# Altium schematic symbol library IC.SchLib: 160 symbols (part 2 of 2)
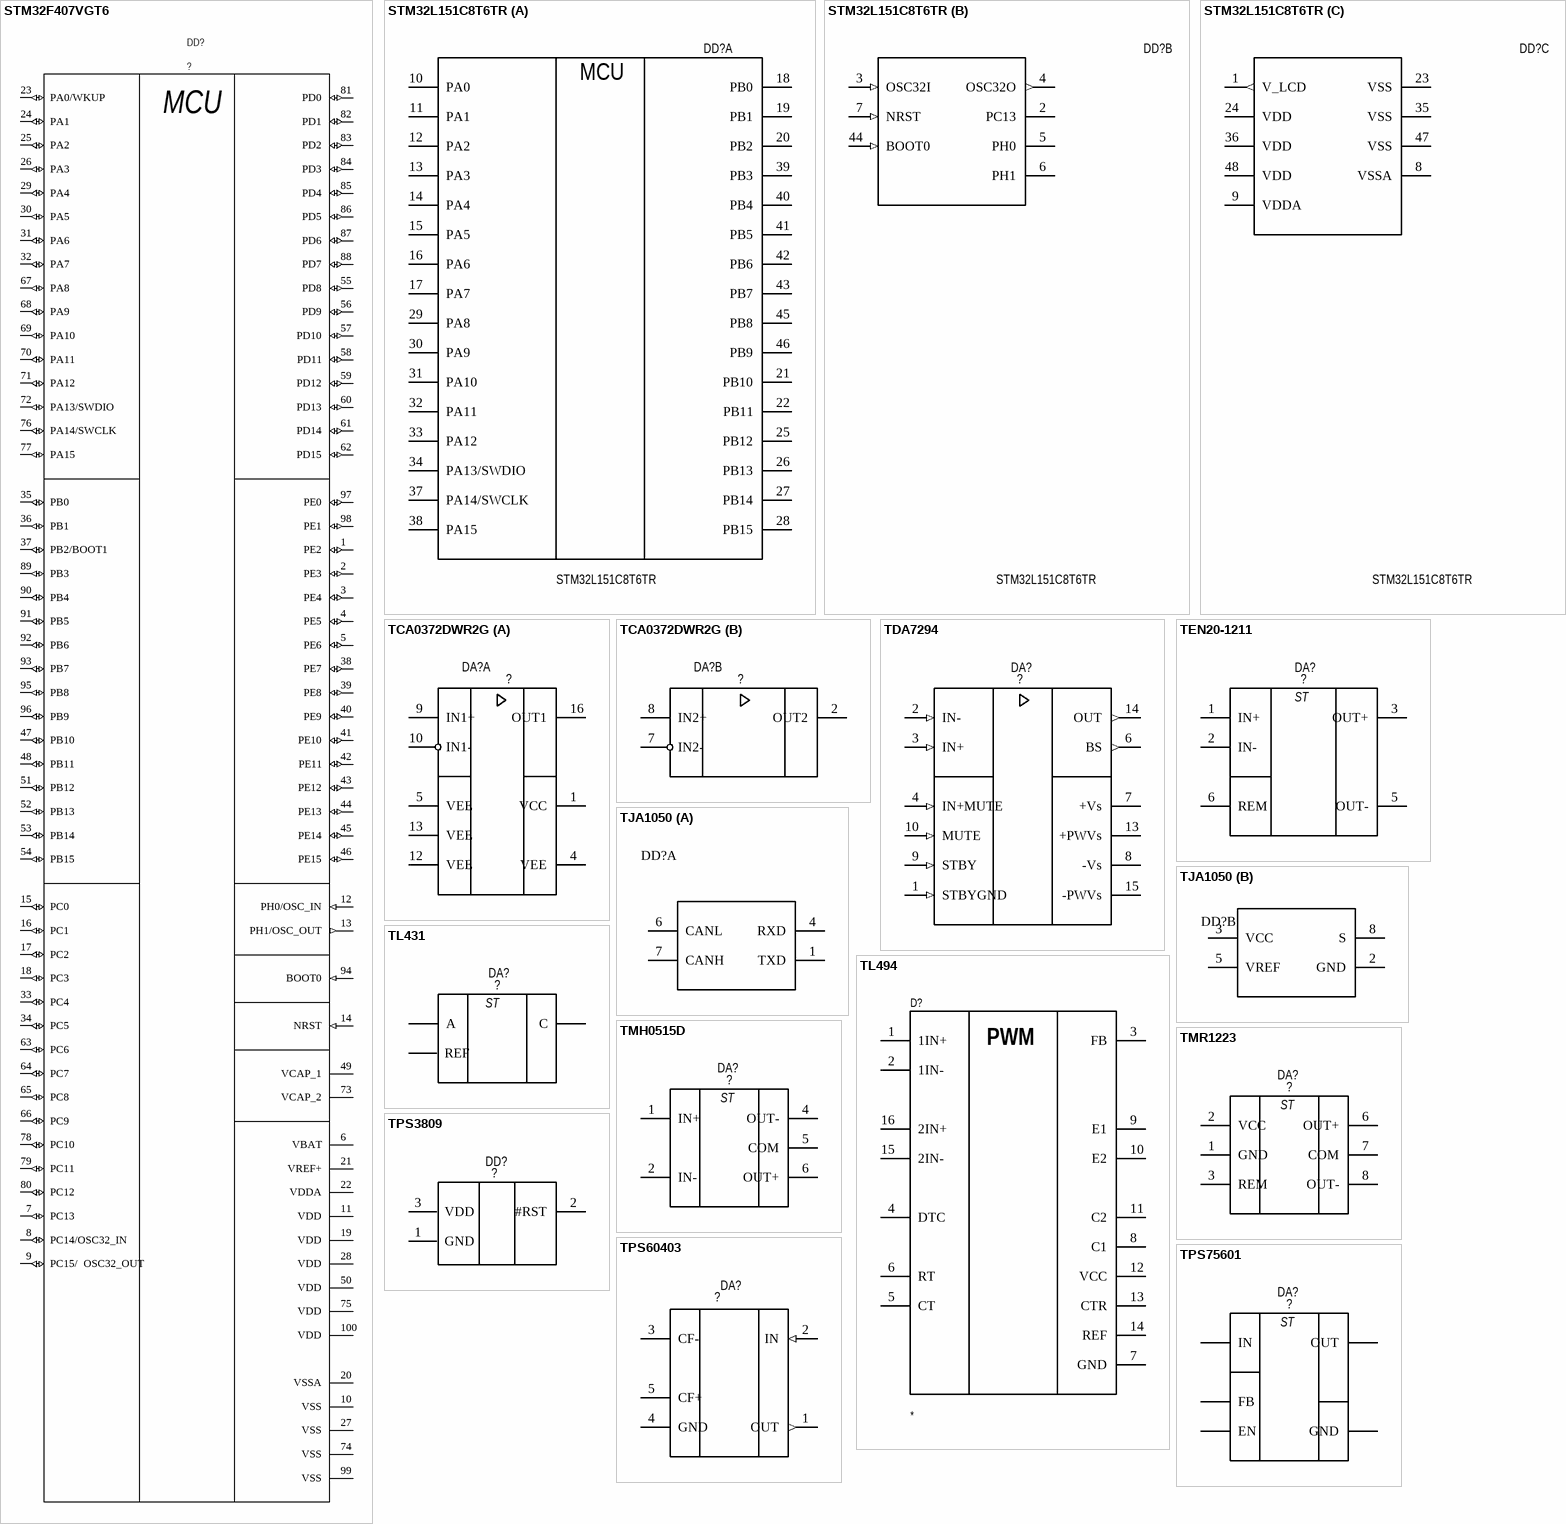
[diagram p20: symbols STM32F407VGT6 to TPS75601]

## STM32F407VGT6
designator DD?, comment ?
ARM Cortex-M4 32b MCU+FPU, 210DMIPS, up to 1MB Flash/192+4KB RAM, USB  OTG HS/FS, Ethernet, 17 TIMs, 3 ADCs, 15 comm. interfaces & camera; type: ?; value: ?
pins: 1 PE2 (io), 2 PE3 (io), 3 PE4 (io), 4 PE5 (io), 5 PE6 (io), 6 VBAT (power), 7 PC13 (io), 8 PC14/OSC32_IN (io), 9 PC15/  OSC32_OUT (io), 10 VSS (power), 11 VDD (power), 12 PH0/OSC_IN (in), 13 PH1/OSC_OUT (out), 14 NRST (in), 15 PC0 (io), 16 PC1 (io), 17 PC2 (io), 18 PC3 (io), 19 VDD (power), 20 VSSA (power), 21 VREF+ (power), 22 VDDA (power), 23 PA0/WKUP (io), 24 PA1 (io), 25 PA2 (io), 26 PA3 (io), 27 VSS (power), 28 VDD (power), 29 PA4 (io), 30 PA5 (io), 31 PA6 (io), 32 PA7 (io), 33 PC4 (io), 34 PC5 (io), 35 PB0 (io), 36 PB1 (io), 37 PB2/BOOT1 (io), 38 PE7 (io), 39 PE8 (io), 40 PE9 (io), 41 PE10 (io), 42 PE11 (io), 43 PE12 (io), 44 PE13 (io), 45 PE14 (io), 46 PE15 (io), 47 PB10 (io), 48 PB11 (io), 49 VCAP_1 (power), 50 VDD (power), 51 PB12 (io), 52 PB13 (io), 53 PB14 (io), 54 PB15 (io), 55 PD8 (io), 56 PD9 (io), 57 PD10 (io), 58 PD11 (io), 59 PD12 (io), 60 PD13 (io), 61 PD14 (io), 62 PD15 (io), 63 PC6 (io), 64 PC7 (io), 65 PC8 (io), 66 PC9 (io), 67 PA8 (io), 68 PA9 (io), 69 PA10 (io), 70 PA11 (io), 71 PA12 (io), 72 PA13/SWDIO (io), 73 VCAP_2 (power), 74 VSS (power), 75 VDD (power), 76 PA14/SWCLK (io), 77 PA15 (io), 78 PC10 (io), 79 PC11 (io), 80 PC12 (io), 81 PD0 (io), 82 PD1 (io), 83 PD2 (io), 84 PD3 (io), 85 PD4 (io), 86 PD5 (io), 87 PD6 (io), 88 PD7 (io), 89 PB3 (io), 90 PB4 (io), 91 PB5 (io), 92 PB6 (io), 93 PB7 (io), 94 BOOT0 (in), 95 PB8 (io), 96 PB9 (io), 97 PE0 (io), 98 PE1 (io), 99 VSS (power), 100 VDD (power)
text: MCU

## STM32L151C8T6TR
designator DD?
Value: *
footprint LQFP-48 (LQFP-48, 48-Leads, Body 7,00x7,00mm, Pitch 0,50mm, IPC Medium Density)
part A pins: 10 PA0, 11 PA1, 12 PA2, 13 PA3, 14 PA4, 15 PA5, 16 PA6, 17 PA7, 18 PB0, 19 PB1, 20 PB2, 21 PB10, 22 PB11, 25 PB12, 26 PB13, 27 PB14, 28 PB15, 29 PA8, 30 PA9, 31 PA10, 32 PA11, 33 PA12, 34 PA13/SWDIO, 37 PA14/SWCLK, 38 PA15, 39 PB3, 40 PB4, 41 PB5, 42 PB6, 43 PB7, 45 PB8, 46 PB9
part B pins: 2 PC13, 3 OSC32I (in), 4 OSC32O (out), 5 PH0, 6 PH1, 7 NRST (in), 44 BOOT0 (in)
part C pins: 1 V_LCD (out), 8 VSSA (power), 9 VDDA (power), 23 VSS (power), 24 VDD (power), 35 VSS (power), 36 VDD (power), 47 VSS (power), 48 VDD (power)
part A text: MCU

## TCA0372DWR2G
designator DA?, comment ?
1.0 A Output Current,  Dual Power Operational  Amplifiers; Type: ?; Value: ?
part A pins: 1 VCC (power), 4 VEE (power), 5 VEE (power), 9 IN1+, 10 IN1-, 12 VEE (power), 13 VEE (power), 16 OUT1
part B pins: 2 OUT2, 7 IN2-, 8 IN2+

## TDA7294
designator DA?, comment ?
100V - 100W DMOS AUDIO AMPLIFIER WITH MUTE/ST-BY; Type: ?; Value: ?
pins: 1 STBYGND (in), 2 IN- (in), 3 IN+ (in), 4 IN+MUTE (in), 6 BS (out), 7 +Vs (power), 8 -Vs (power), 9 STBY (in), 10 MUTE (in), 13 +PWVs (power), 14 OUT (out), 15 -PWVs (power)

## TEN20-1211
designator DA?, comment ?
DC/DC Converter; Type: ?; Value: ?
pins: 1 IN+, 2 IN-, 3 OUT+, 5 OUT-, 6 REM
text: ST

## TJA1050
designator DD?  (value not drawn)
part A pins: 1 TXD, 4 RXD, 6 CANL, 7 CANH
part B pins: 2 GND, 3 VCC, 5 VREF, 8 S

## TL431
designator DA?, comment ?
Adjustible Precision Shunt Regulators; Type: ?; Value: ?
pins: A "Anode", C "Cathode", R REF "Reference"
text: ST

## TL494
designator D?
pins: 1 1IN+, 2 1IN-, 3 FB, 4 DTC, 5 CT, 6 RT, 7 GND, 8 C1, 9 E1, 10 E2, 11 C2, 12 VCC, 13 CTR, 14 REF, 15 2IN-, 16 2IN+
text: PWM

## TMH0515D
designator DA?, comment ?
DC-DC  2W; Type: ?; Value: ?
pins: 1 IN+, 2 IN-, 4 OUT-, 5 COM, 6 OUT+
text: ST

## TMR1223
designator DA?, comment ?
DC-DC  2W; Type: ?; Value: ?
pins: 1 GND, 2 VCC, 3 REM, 6 OUT+, 7 COM, 8 OUT-
text: ST

## TPS3809
designator DD?, comment ?
UPPLY VOLTAGE SUPERVISOR; Type: ?; Value: ?
pins: 1 GND, 2 #RST, 3 VDD

## TPS60403
designator DA?, comment ?
Unregulated 60-mA Charge Pump Voltage Inverte; Type: ?; value: ?
pins: 1 OUT (out), 2 IN (in), 3 CF-, 4 GND (power), 5 CF+

## TPS75601
designator DA?, comment ?
FAST-TRANSIENT RESPONSE 5-A LOW-DROPOUT VOLTAGE REGULATORS; Type: ?; Value: ?
pins: EN, FB, GND, IN, OUT
text: ST

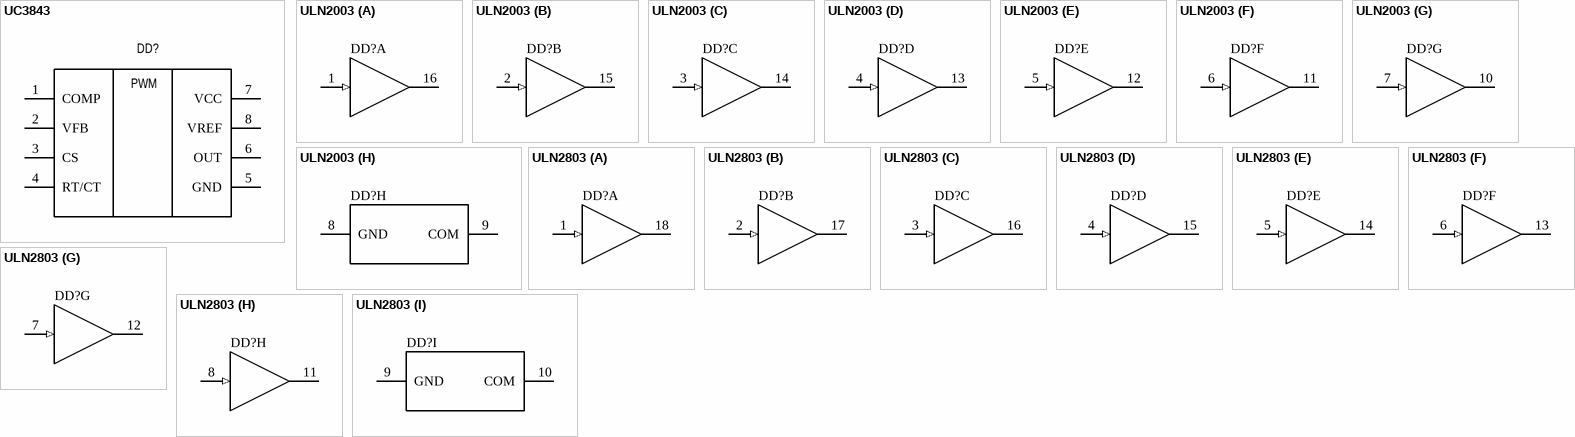
[diagram p15: symbols UC3843 to ULN2803]

## UC3843
designator DD?
HIGH PERFORMANCE CURRENT MODE PWM CONTROLLER; type: ?
pins: 1 COMP, 2 VFB, 3 CS, 4 RT/CT, 5 GND, 6 OUT, 7 VCC, 8 VREF
text: PWM

## ULN2003
designator DD?  (value not drawn)
value: *; Type: *
part A pins: 1 IN1 (in), 16 OUT1 (oc)
part B pins: 2 IN2 (in), 15 OUT2 (oc)
part C pins: 3 IN3 (in), 14 OUT3 (oc)
part D pins: 4 IN4 (in), 13 OUT4 (oc)
part E pins: 5 IN5 (in), 12 OUT5 (oc)
part F pins: 6 IN6 (in), 11 OUT6 (oc)
part G pins: 7 IN7 (in), 10 OUT7 (oc)
part H pins: 8 GND, 9 COM

## ULN2803
designator DD?, comment ULN2003  (value not drawn)
value: *; Type: *
part A pins: 1 IN1 (in), 18 OUT1 (oc)
part B pins: 2 IN2 (in), 17 OUT2 (oc)
part C pins: 3 IN3 (in), 16 OUT3 (oc)
part D pins: 4 IN4 (in), 15 OUT4 (oc)
part E pins: 5 IN5 (in), 14 OUT5 (oc)
part F pins: 6 IN6 (in), 13 OUT6 (oc)
part G pins: 7 IN7 (in), 12 OUT7 (oc)
part H pins: 8 IN8 (in), 11 OUT8 (oc)
part I pins: 9 GND, 10 COM

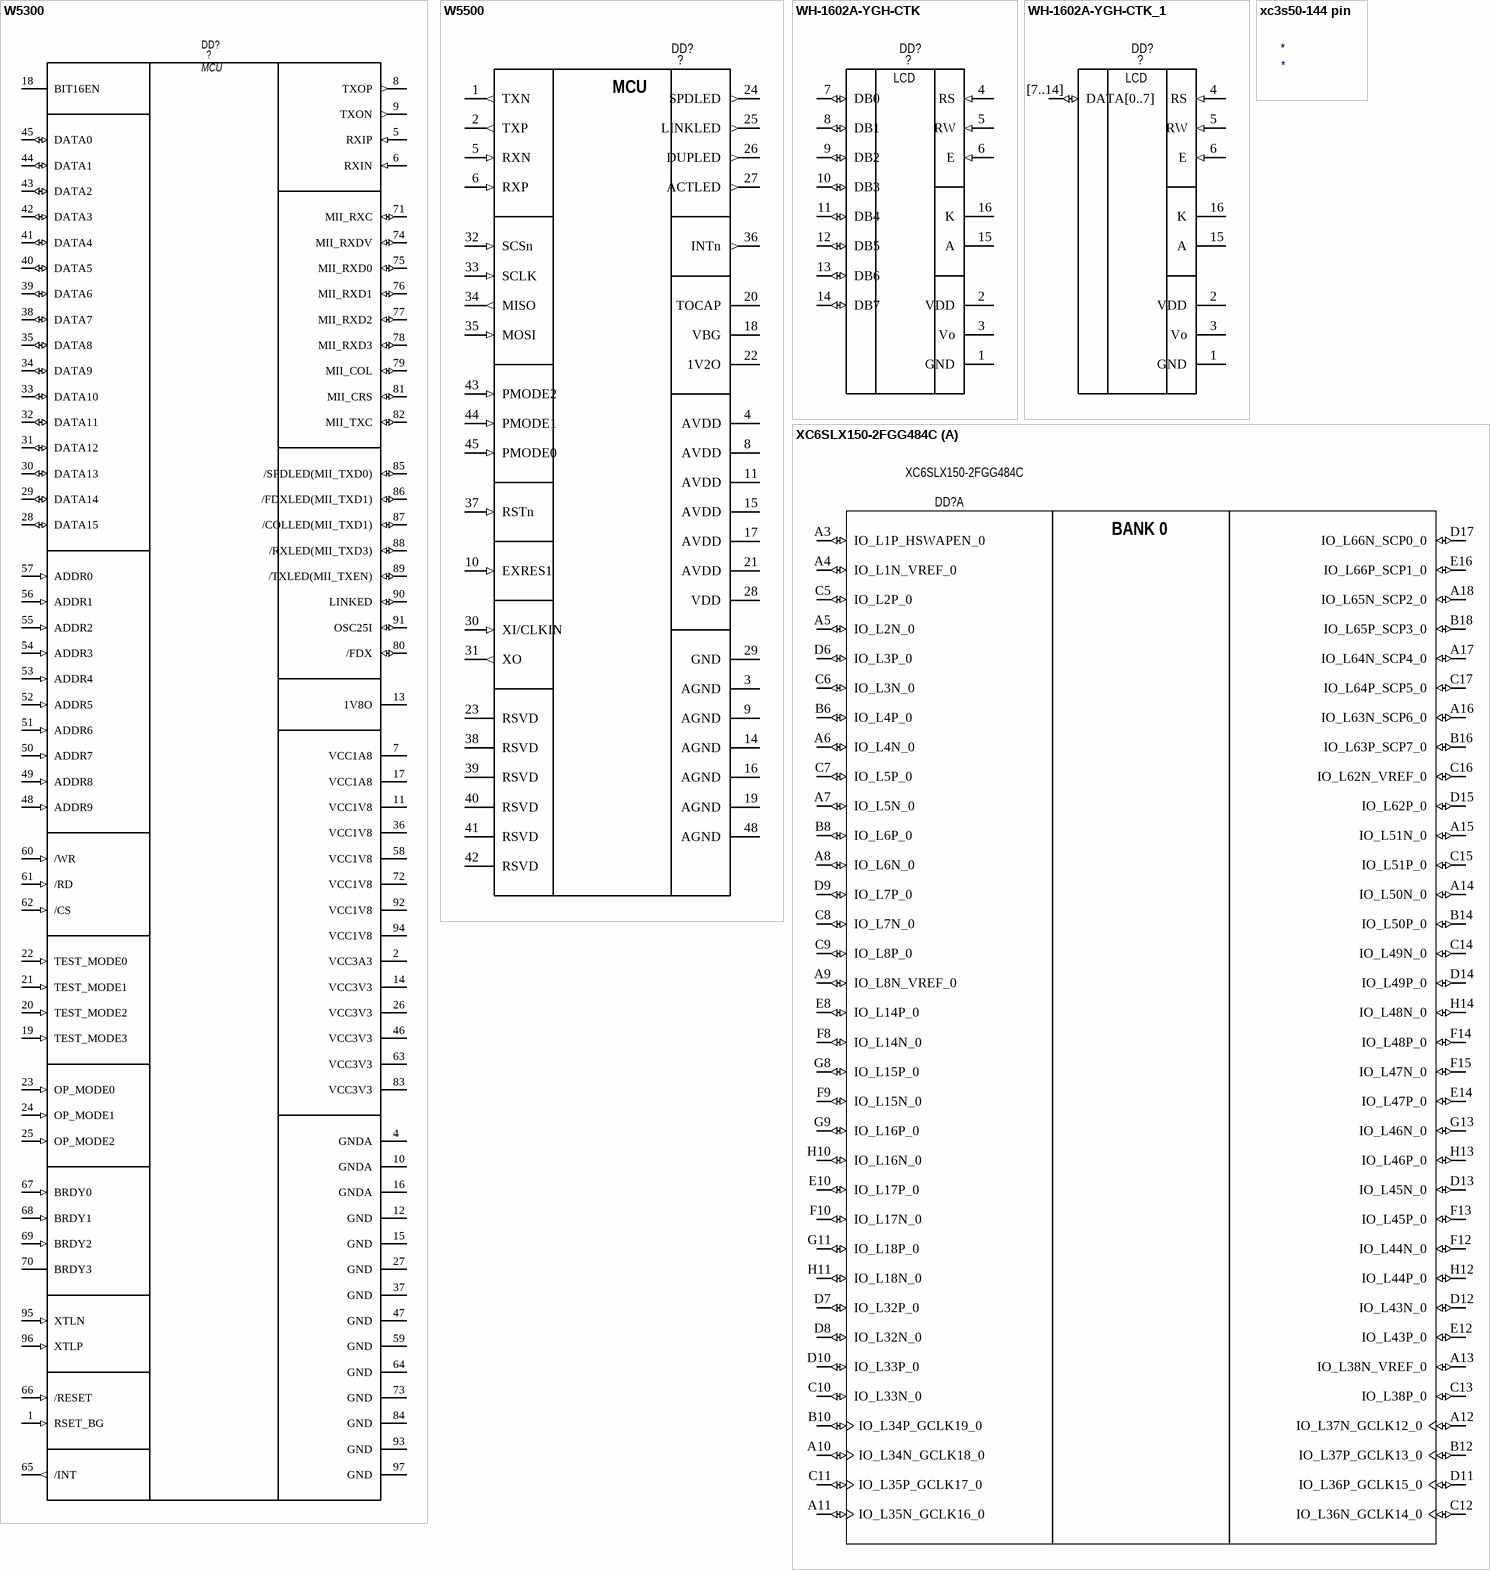
[diagram p16: symbols W5300 to XC6SLX150-2FGG484C]

## W5300
designator DD?, comment ?
High-Performance Internet Connectivity Solution; type: ?; value: ?
pins: 1 RSET_BG (in), 2 VCC3A3 (power), 4 NC hidden, 4 GNDA (power), 5 RXIP (in), 6 RXIN (in), 7 VCC1A8 (power), 8 TXOP (out), 9 TXON (out), 10 GNDA (power), 11 VCC1V8 (power), 12 GND (power), 13 1V8O (power), 14 VCC3V3 (power), 15 GND (power), 16 GNDA (power), 17 VCC1A8 (power), 18 BIT16EN, 19 TEST_MODE3 (in), 20 TEST_MODE2 (in), 21 TEST_MODE1 (in), 22 TEST_MODE0 (in), 23 OP_MODE0 (in), 24 OP_MODE1 (in), 25 OP_MODE2 (in), 26 VCC3V3 (power), 27 GND (power), 28 DATA15 (io), 29 DATA14 (io), 30 DATA13 (io), 31 DATA12 (io), 32 DATA11 (io), 33 DATA10 (io), 34 DATA9 (io), 35 DATA8 (io), 36 VCC1V8 (power), 37 GND (power), 38 DATA7 (io), 39 DATA6 (io), 40 DATA5 (io), 41 DATA4 (io), 42 DATA3 (io), 43 DATA2 (io), 44 DATA1 (io), 45 DATA0 (io), 46 VCC3V3 (power), 47 GND (power), 48 ADDR9 (in), 49 ADDR8 (in), 50 ADDR7 (in), 51 ADDR6 (in), 52 ADDR5 (in), 53 ADDR4 (in), 54 ADDR3 (in), 55 ADDR2 (in), 56 ADDR1 (in), 57 ADDR0 (in), 58 VCC1V8 (power), 59 GND (power), 60 /WR (in), 61 /RD (in), 62 /CS (in), 63 VCC3V3 (power), 64 GND (power), 65 /INT (out), 66 /RESET (in), 67 BRDY0 (in), 68 BRDY1 (in), 69 BRDY2 (in), 70 BRDY3, 71 MII_RXC (io), 72 VCC1V8 (power), 73 GND (power), 74 MII_RXDV (io), 75 MII_RXD0 (io), 76 MII_RXD1 (io), 77 MII_RXD2 (io), 78 MII_RXD3 (io), 79 MII_COL (io), 80 /FDX (io), 81 MII_CRS (io), 82 MII_TXC (io), 83 VCC3V3 (power), 84 GND (power), 85 /SPDLED(MII_TXD0) (io), 86 /FDXLED(MII_TXD1) (io), 87 /COLLED(MII_TXD1) (io), 88 /RXLED(MII_TXD3) (io), 89 /TXLED(MII_TXEN) (io), 90 LINKED (io), 91 OSC25I (io), 92 VCC1V8 (power), 93 GND (power), 94 VCC1V8 (power), 95 XTLN (in), 96 XTLP (in), 97 GND (power), 99 NC hidden, 100 NC hidden
text: MCU

## W5500
designator DD?, comment ?
Hardwired TCP/IP embedded Ethernet controller; type: ?; value: ?
pins: 1 TXN (out), 2 TXP (out), 3 AGND (power), 4 AVDD (power), 5 RXN (in), 6 RXP (in), 7 DNC hidden, 8 AVDD (power), 9 AGND (power), 10 EXRES1 (in), 11 AVDD (power), 12 NC hidden, 13 NC hidden, 14 AGND (power), 15 AVDD (power), 16 AGND (power), 17 AVDD (power), 18 VBG (power), 19 AGND (power), 20 TOCAP (power), 21 AVDD (power), 22 1V2O (power), 23 RSVD, 24 SPDLED (out), 25 LINKLED (out), 26 DUPLED (out), 27 ACTLED (out), 28 VDD (power), 29 GND (power), 30 XI/CLKIN (in), 31 XO (out), 32 SCSn (in), 33 SCLK (in), 34 MISO (out), 35 MOSI (in), 36 INTn (out), 37 RSTn (in), 38 RSVD, 39 RSVD, 40 RSVD, 41 RSVD, 42 RSVD, 43 PMODE2 (in), 44 PMODE1 (in), 45 PMODE0 (in), 46 NC hidden, 47 NC hidden, 48 AGND (power)
text: MCU

## WH-1602A-YGH-CTK
designator DD?, comment ?
LCD display Module; type: *; value: ?
pins: 1 GND (power), 2 VDD (power), 3 Vo (power), 4 RS (in), 5 RW (in), 6 E (in), 7 DB0 (io), 8 DB1 (io), 9 DB2 (io), 10 DB3 (io), 11 DB4 (io), 12 DB5 (io), 13 DB6 (io), 14 DB7 (io), 15 A (power), 16 K (power) "cathode"
text: LCD

## WH-1602A-YGH-CTK_1
designator DD?, comment ?
LCD display Module; type: *; value: ?
pins: 1 GND (power), 2 VDD (power), 3 Vo (power), 4 RS (in), 5 RW (in), 6 E (in), 15 A (power), 16 K (power) "cathode", [7..14] DATA[0..7] (io)
text: LCD

## xc3s50-144 pin
designator *

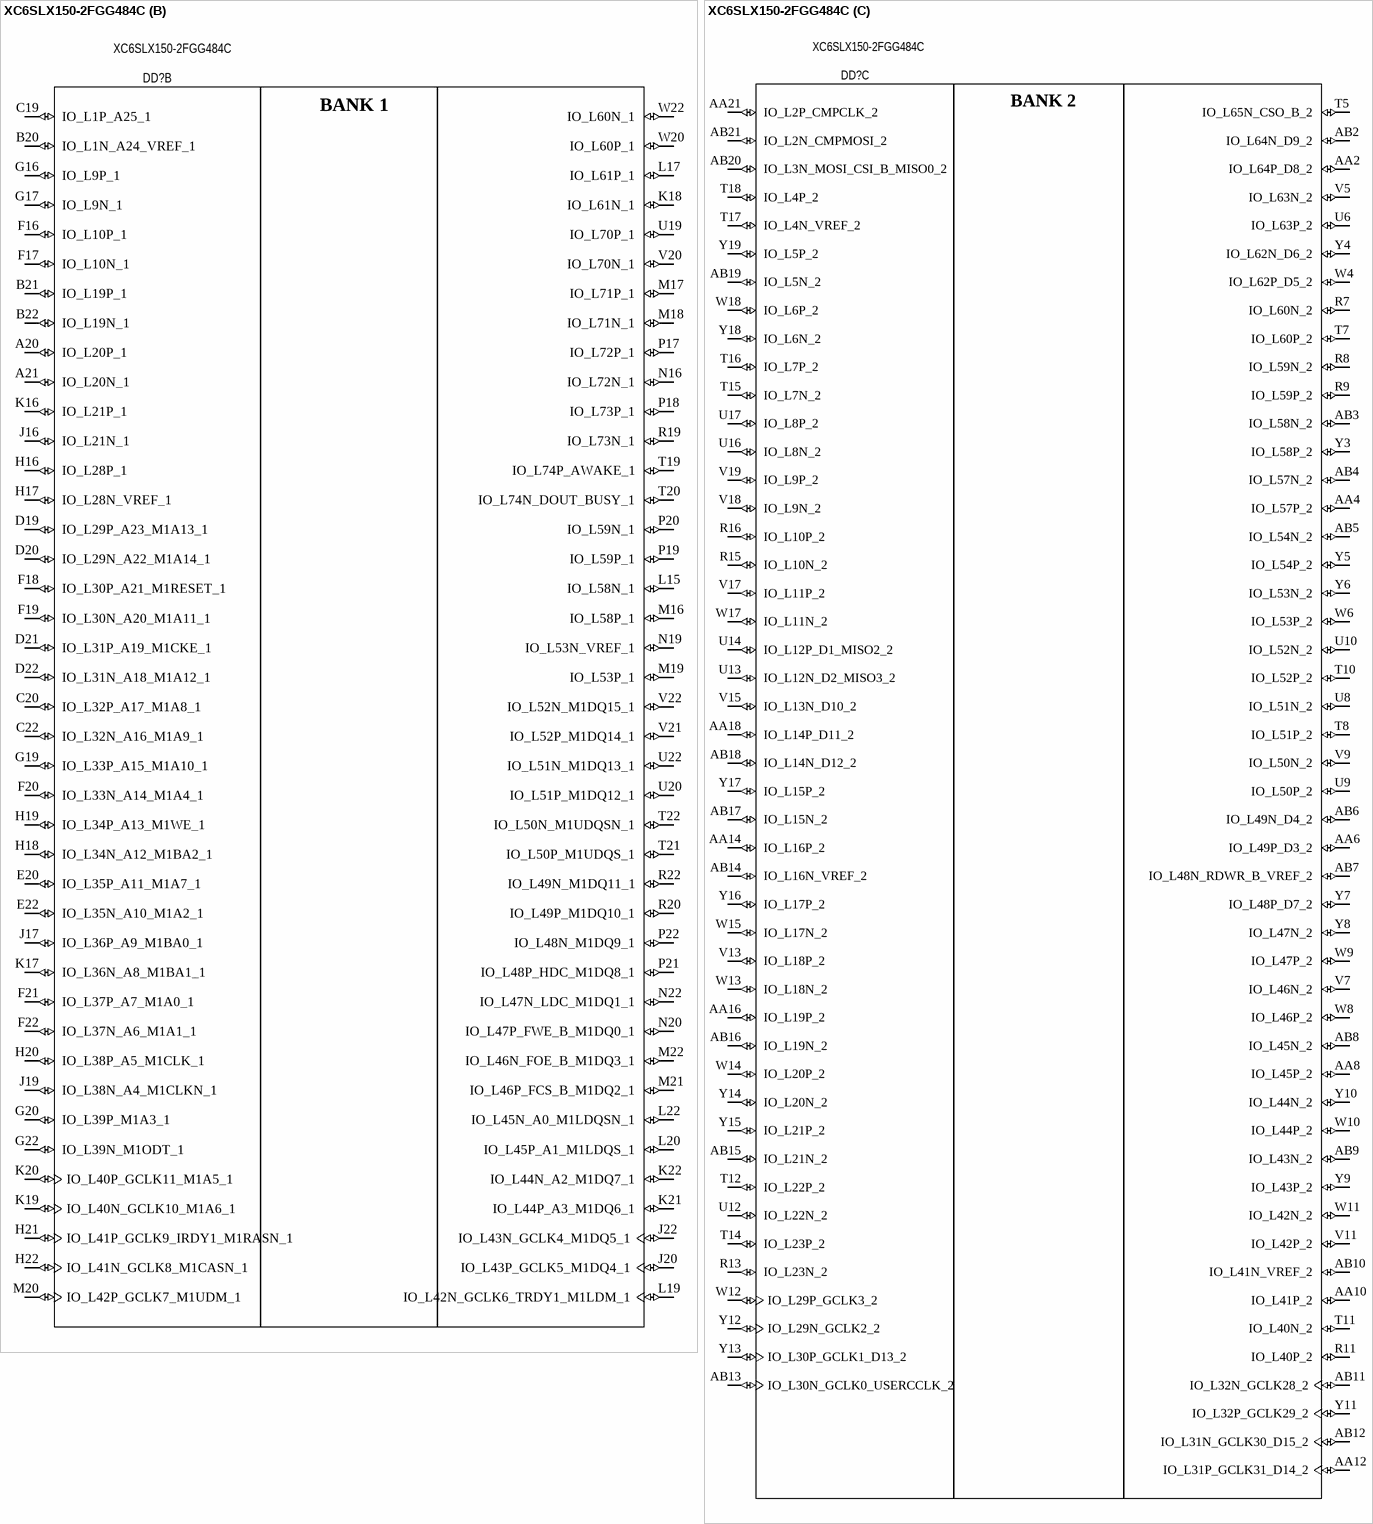
[diagram p17: symbol XC6SLX150-2FGG484C]

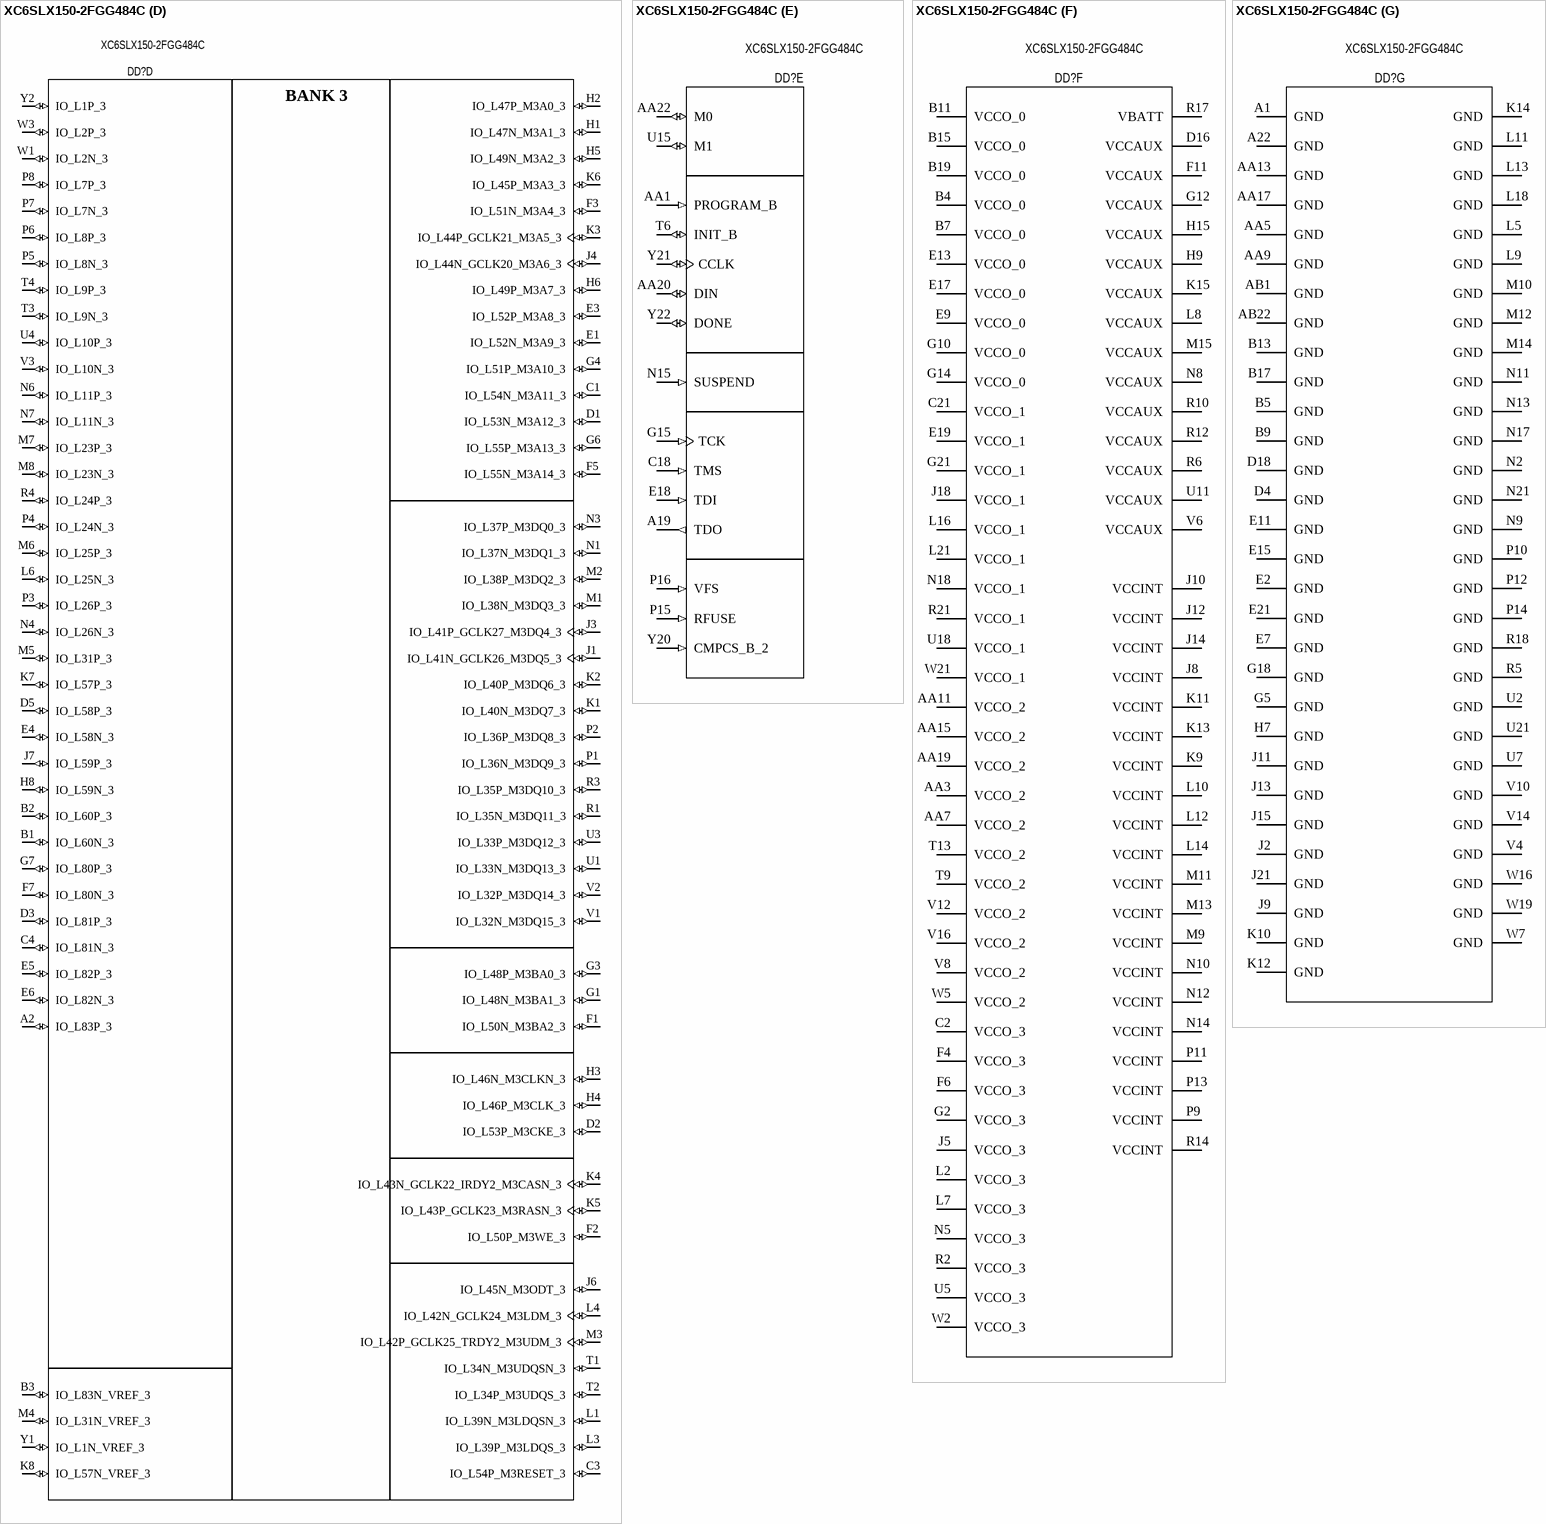
[diagram p18: symbol XC6SLX150-2FGG484C]

## XC6SLX150-2FGG484C
designator DD?
Spartan-6 LX 1.2V FPGA, 338 User I/Os, 484-Ball Fine-Pitch BGA (1.0mm Pitch), Speed Grade 2, Commercial Grade, Pb-Free; Published: 17-Nov-2009; DatasheetVersion: ver1.6, Nov-2010; PackageVersion: ver1.1, Dec-2008; PackageReference: FGG484; Publisher: Altium Limited; PackageDescription: 484-Ball Fine Pitch Ball Grid Array 1.00 mm Pitch (FGG484) - Pb-Free; Supplier 1: Digi-Key; Supplier Part Number 1: XC6SLX150-2FGG484C-ND; Code_JEDEC: MS-034-AAJ-1; Code_IPC: BGA100P22X22-484; ComponentLink1Description: Manufacturer Link; ComponentLink1URL: http://www.xilinx.com; ComponentLink2Description: Spartan-6 Datasheet; ComponentLink2URL: http://www.xilinx.com/support/documentation/data_sheets/ds160.pdf; ComponentLink3Description: Spartan-6 Documents; ComponentLink3URL: http://www.xilinx.com/support/documentation/spartan-6.htm; ComponentLink4Description: Xilinx.com Home; ComponentLink4URL: http://www.xilinx.com
footprint FGG484 (BGA, 484-Leads, Body 23x23mm, Pitch 1mm)
signal-integrity model XC6SLX150_FGG484 (Spartan-6)
part A pins: A3 IO_L1P_HSWAPEN_0 (io), A4 IO_L1N_VREF_0 (io), A5 IO_L2N_0 (io), A6 IO_L4N_0 (io), A7 IO_L5N_0 (io), A8 IO_L6N_0 (io), A9 IO_L8N_VREF_0 (io), A10 IO_L34N_GCLK18_0 (io), A11 IO_L35N_GCLK16_0 (io), A12 IO_L37N_GCLK12_0 (io), A13 IO_L38N_VREF_0 (io), A14 IO_L50N_0 (io), A15 IO_L51N_0 (io), A16 IO_L63N_SCP6_0 (io), A17 IO_L64N_SCP4_0 (io), A18 IO_L65N_SCP2_0 (io), B6 IO_L4P_0 (io), B8 IO_L6P_0 (io), B10 IO_L34P_GCLK19_0 (io), B12 IO_L37P_GCLK13_0 (io), B14 IO_L50P_0 (io), B16 IO_L63P_SCP7_0 (io), B18 IO_L65P_SCP3_0 (io), C5 IO_L2P_0 (io), C6 IO_L3N_0 (io), C7 IO_L5P_0 (io), C8 IO_L7N_0 (io), C9 IO_L8P_0 (io), C10 IO_L33N_0 (io), C11 IO_L35P_GCLK17_0 (io), C12 IO_L36N_GCLK14_0 (io), C13 IO_L38P_0 (io), C14 IO_L49N_0 (io), C15 IO_L51P_0 (io), C16 IO_L62N_VREF_0 (io), C17 IO_L64P_SCP5_0 (io), D6 IO_L3P_0 (io), D7 IO_L32P_0 (io), D8 IO_L32N_0 (io), D9 IO_L7P_0 (io), D10 IO_L33P_0 (io), D11 IO_L36P_GCLK15_0 (io), D12 IO_L43N_0 (io), D13 IO_L45N_0 (io), D14 IO_L49P_0 (io), D15 IO_L62P_0 (io), D17 IO_L66N_SCP0_0 (io), E8 IO_L14P_0 (io), E10 IO_L17P_0 (io), E12 IO_L43P_0 (io), E14 IO_L47P_0 (io), E16 IO_L66P_SCP1_0 (io), F8 IO_L14N_0 (io), F9 IO_L15N_0 (io), F10 IO_L17N_0 (io), F12 IO_L44N_0 (io), F13 IO_L45P_0 (io), F14 IO_L48P_0 (io), F15 IO_L47N_0 (io), G8 IO_L15P_0 (io), G9 IO_L16P_0 (io), G11 IO_L18P_0 (io), G13 IO_L46N_0 (io), H10 IO_L16N_0 (io), H11 IO_L18N_0 (io), H12 IO_L44P_0 (io), H13 IO_L46P_0 (io), H14 IO_L48N_0 (io)
part B pins: A20 IO_L20P_1 (io), A21 IO_L20N_1 (io), B20 IO_L1N_A24_VREF_1 (io), B21 IO_L19P_1 (io), B22 IO_L19N_1 (io), C19 IO_L1P_A25_1 (io), C20 IO_L32P_A17_M1A8_1 (io), C22 IO_L32N_A16_M1A9_1 (io), D19 IO_L29P_A23_M1A13_1 (io), D20 IO_L29N_A22_M1A14_1 (io), D21 IO_L31P_A19_M1CKE_1 (io), D22 IO_L31N_A18_M1A12_1 (io), E20 IO_L35P_A11_M1A7_1 (io), E22 IO_L35N_A10_M1A2_1 (io), F16 IO_L10P_1 (io), F17 IO_L10N_1 (io), F18 IO_L30P_A21_M1RESET_1 (io), F19 IO_L30N_A20_M1A11_1 (io), F20 IO_L33N_A14_M1A4_1 (io), F21 IO_L37P_A7_M1A0_1 (io), F22 IO_L37N_A6_M1A1_1 (io), G16 IO_L9P_1 (io), G17 IO_L9N_1 (io), G19 IO_L33P_A15_M1A10_1 (io), G20 IO_L39P_M1A3_1 (io), G22 IO_L39N_M1ODT_1 (io), H16 IO_L28P_1 (io), H17 IO_L28N_VREF_1 (io), H18 IO_L34N_A12_M1BA2_1 (io), H19 IO_L34P_A13_M1WE_1 (io), H20 IO_L38P_A5_M1CLK_1 (io), H21 IO_L41P_GCLK9_IRDY1_M1RASN_1 (io), H22 IO_L41N_GCLK8_M1CASN_1 (io), J16 IO_L21N_1 (io), J17 IO_L36P_A9_M1BA0_1 (io), J19 IO_L38N_A4_M1CLKN_1 (io), J20 IO_L43P_GCLK5_M1DQ4_1 (io), J22 IO_L43N_GCLK4_M1DQ5_1 (io), K16 IO_L21P_1 (io), K17 IO_L36N_A8_M1BA1_1 (io), K18 IO_L61N_1 (io), K19 IO_L40N_GCLK10_M1A6_1 (io), K20 IO_L40P_GCLK11_M1A5_1 (io), K21 IO_L44P_A3_M1DQ6_1 (io), K22 IO_L44N_A2_M1DQ7_1 (io), L15 IO_L58N_1 (io), L17 IO_L61P_1 (io), L19 IO_L42N_GCLK6_TRDY1_M1LDM_1 (io), L20 IO_L45P_A1_M1LDQS_1 (io), L22 IO_L45N_A0_M1LDQSN_1 (io), M16 IO_L58P_1 (io), M17 IO_L71P_1 (io), M18 IO_L71N_1 (io), M19 IO_L53P_1 (io), M20 IO_L42P_GCLK7_M1UDM_1 (io), M21 IO_L46P_FCS_B_M1DQ2_1 (io), M22 IO_L46N_FOE_B_M1DQ3_1 (io), N16 IO_L72N_1 (io), N19 IO_L53N_VREF_1 (io), N20 IO_L47P_FWE_B_M1DQ0_1 (io), N22 IO_L47N_LDC_M1DQ1_1 (io), P17 IO_L72P_1 (io), P18 IO_L73P_1 (io), P19 IO_L59P_1 (io), P20 IO_L59N_1 (io), P21 IO_L48P_HDC_M1DQ8_1 (io), P22 IO_L48N_M1DQ9_1 (io), R19 IO_L73N_1 (io), R20 IO_L49P_M1DQ10_1 (io), R22 IO_L49N_M1DQ11_1 (io), T19 IO_L74P_AWAKE_1 (io), T20 IO_L74N_DOUT_BUSY_1 (io), T21 IO_L50P_M1UDQS_1 (io), T22 IO_L50N_M1UDQSN_1 (io), U19 IO_L70P_1 (io), U20 IO_L51P_M1DQ12_1 (io), U22 IO_L51N_M1DQ13_1 (io), V20 IO_L70N_1 (io), V21 IO_L52P_M1DQ14_1 (io), V22 IO_L52N_M1DQ15_1 (io), W20 IO_L60P_1 (io), W22 IO_L60N_1 (io)
part C pins: AA2 IO_L64P_D8_2 (io), AA4 IO_L57P_2 (io), AA6 IO_L49P_D3_2 (io), AA8 IO_L45P_2 (io), AA10 IO_L41P_2 (io), AA12 IO_L31P_GCLK31_D14_2 (io), AA14 IO_L16P_2 (io), AA16 IO_L19P_2 (io), AA18 IO_L14P_D11_2 (io), AA21 IO_L2P_CMPCLK_2 (io), AB2 IO_L64N_D9_2 (io), AB3 IO_L58N_2 (io), AB4 IO_L57N_2 (io), AB5 IO_L54N_2 (io), AB6 IO_L49N_D4_2 (io), AB7 IO_L48N_RDWR_B_VREF_2 (io), AB8 IO_L45N_2 (io), AB9 IO_L43N_2 (io), AB10 IO_L41N_VREF_2 (io), AB11 IO_L32N_GCLK28_2 (io), AB12 IO_L31N_GCLK30_D15_2 (io), AB13 IO_L30N_GCLK0_USERCCLK_2 (io), AB14 IO_L16N_VREF_2 (io), AB15 IO_L21N_2 (io), AB16 IO_L19N_2 (io), AB17 IO_L15N_2 (io), AB18 IO_L14N_D12_2 (io), AB19 IO_L5N_2 (io), AB20 IO_L3N_MOSI_CSI_B_MISO0_2 (io), AB21 IO_L2N_CMPMOSI_2 (io), R7 IO_L60N_2 (io), R8 IO_L59N_2 (io), R9 IO_L59P_2 (io), R11 IO_L40P_2 (io), R13 IO_L23N_2 (io), R15 IO_L10N_2 (io), R16 IO_L10P_2 (io), T5 IO_L65N_CSO_B_2 (io), T7 IO_L60P_2 (io), T8 IO_L51P_2 (io), T10 IO_L52P_2 (io), T11 IO_L40N_2 (io), T12 IO_L22P_2 (io), T14 IO_L23P_2 (io), T15 IO_L7N_2 (io), T16 IO_L7P_2 (io), T17 IO_L4N_VREF_2 (io), T18 IO_L4P_2 (io), U6 IO_L63P_2 (io), U8 IO_L51N_2 (io), U9 IO_L50P_2 (io), U10 IO_L52N_2 (io), U12 IO_L22N_2 (io), U13 IO_L12N_D2_MISO3_2 (io), U14 IO_L12P_D1_MISO2_2 (io), U16 IO_L8N_2 (io), U17 IO_L8P_2 (io), V5 IO_L63N_2 (io), V7 IO_L46N_2 (io), V9 IO_L50N_2 (io), V11 IO_L42P_2 (io), V13 IO_L18P_2 (io), V15 IO_L13N_D10_2 (io), V17 IO_L11P_2 (io), V18 IO_L9N_2 (io), V19 IO_L9P_2 (io), W4 IO_L62P_D5_2 (io), W6 IO_L53P_2 (io), W8 IO_L46P_2 (io), W9 IO_L47P_2 (io), W10 IO_L44P_2 (io), W11 IO_L42N_2 (io), W12 IO_L29P_GCLK3_2 (io), W13 IO_L18N_2 (io), W14 IO_L20P_2 (io), W15 IO_L17N_2 (io), W17 IO_L11N_2 (io), W18 IO_L6P_2 (io), Y3 IO_L58P_2 (io), Y4 IO_L62N_D6_2 (io), Y5 IO_L54P_2 (io), Y6 IO_L53N_2 (io), Y7 IO_L48P_D7_2 (io), Y8 IO_L47N_2 (io), Y9 IO_L43P_2 (io), Y10 IO_L44N_2 (io), Y11 IO_L32P_GCLK29_2 (io), Y12 IO_L29N_GCLK2_2 (io), Y13 IO_L30P_GCLK1_D13_2 (io), Y14 IO_L20N_2 (io), Y15 IO_L21P_2 (io), Y16 IO_L17P_2 (io), Y17 IO_L15P_2 (io), Y18 IO_L6N_2 (io), Y19 IO_L5P_2 (io)
part D pins: A2 IO_L83P_3 (io), B1 IO_L60N_3 (io), B2 IO_L60P_3 (io), B3 IO_L83N_VREF_3 (io), C1 IO_L54N_M3A11_3 (io), C3 IO_L54P_M3RESET_3 (io), C4 IO_L81N_3 (io), D1 IO_L53N_M3A12_3 (io), D2 IO_L53P_M3CKE_3 (io), D3 IO_L81P_3 (io), D5 IO_L58P_3 (io), E1 IO_L52N_M3A9_3 (io), E3 IO_L52P_M3A8_3 (io), E4 IO_L58N_3 (io), E5 IO_L82P_3 (io), E6 IO_L82N_3 (io), F1 IO_L50N_M3BA2_3 (io), F2 IO_L50P_M3WE_3 (io), F3 IO_L51N_M3A4_3 (io), F5 IO_L55N_M3A14_3 (io), F7 IO_L80N_3 (io), G1 IO_L48N_M3BA1_3 (io), G3 IO_L48P_M3BA0_3 (io), G4 IO_L51P_M3A10_3 (io), G6 IO_L55P_M3A13_3 (io), G7 IO_L80P_3 (io), H1 IO_L47N_M3A1_3 (io), H2 IO_L47P_M3A0_3 (io), H3 IO_L46N_M3CLKN_3 (io), H4 IO_L46P_M3CLK_3 (io), H5 IO_L49N_M3A2_3 (io), H6 IO_L49P_M3A7_3 (io), H8 IO_L59N_3 (io), J1 IO_L41N_GCLK26_M3DQ5_3 (io), J3 IO_L41P_GCLK27_M3DQ4_3 (io), J4 IO_L44N_GCLK20_M3A6_3 (io), J6 IO_L45N_M3ODT_3 (io), J7 IO_L59P_3 (io), K1 IO_L40N_M3DQ7_3 (io), K2 IO_L40P_M3DQ6_3 (io), K3 IO_L44P_GCLK21_M3A5_3 (io), K4 IO_L43N_GCLK22_IRDY2_M3CASN_3 (io), K5 IO_L43P_GCLK23_M3RASN_3 (io), K6 IO_L45P_M3A3_3 (io), K7 IO_L57P_3 (io), K8 IO_L57N_VREF_3 (io), L1 IO_L39N_M3LDQSN_3 (io), L3 IO_L39P_M3LDQS_3 (io), L4 IO_L42N_GCLK24_M3LDM_3 (io), L6 IO_L25N_3 (io), M1 IO_L38N_M3DQ3_3 (io), M2 IO_L38P_M3DQ2_3 (io), M3 IO_L42P_GCLK25_TRDY2_M3UDM_3 (io), M4 IO_L31N_VREF_3 (io), M5 IO_L31P_3 (io), M6 IO_L25P_3 (io), M7 IO_L23P_3 (io), M8 IO_L23N_3 (io), N1 IO_L37N_M3DQ1_3 (io), N3 IO_L37P_M3DQ0_3 (io), N4 IO_L26N_3 (io), N6 IO_L11P_3 (io), N7 IO_L11N_3 (io), P1 IO_L36N_M3DQ9_3 (io), P2 IO_L36P_M3DQ8_3 (io), P3 IO_L26P_3 (io), P4 IO_L24N_3 (io), P5 IO_L8N_3 (io), P6 IO_L8P_3 (io), P7 IO_L7N_3 (io), P8 IO_L7P_3 (io), R1 IO_L35N_M3DQ11_3 (io), R3 IO_L35P_M3DQ10_3 (io), R4 IO_L24P_3 (io), T1 IO_L34N_M3UDQSN_3 (io), T2 IO_L34P_M3UDQS_3 (io), T3 IO_L9N_3 (io), T4 IO_L9P_3 (io), U1 IO_L33N_M3DQ13_3 (io), U3 IO_L33P_M3DQ12_3 (io), U4 IO_L10P_3 (io), V1 IO_L32N_M3DQ15_3 (io), V2 IO_L32P_M3DQ14_3 (io), V3 IO_L10N_3 (io), W1 IO_L2N_3 (io), W3 IO_L2P_3 (io), Y1 IO_L1N_VREF_3 (io), Y2 IO_L1P_3 (io)
part E pins: A19 TDO (out), AA1 PROGRAM_B (in), AA20 DIN (io), AA22 M0 (io), C18 TMS (in), E18 TDI (in), G15 TCK (in), N15 SUSPEND (in), P15 RFUSE (in), P16 VFS (in), T6 INIT_B (io), U15 M1 (io), Y20 CMPCS_B_2 (in), Y21 CCLK (io), Y22 DONE (io)
part F pins: AA3 VCCO_2 (power), AA7 VCCO_2 (power), AA11 VCCO_2 (power), AA15 VCCO_2 (power), AA19 VCCO_2 (power), B4 VCCO_0 (power), B7 VCCO_0 (power), B11 VCCO_0 (power), B15 VCCO_0 (power), B19 VCCO_0 (power), C2 VCCO_3 (power), C21 VCCO_1 (power), D16 VCCAUX (power), E9 VCCO_0 (power), E13 VCCO_0 (power), E17 VCCO_0 (power), E19 VCCO_1 (power), F4 VCCO_3 (power), F6 VCCO_3 (power), F11 VCCAUX (power), G2 VCCO_3 (power), G10 VCCO_0 (power), G12 VCCAUX (power), G14 VCCO_0 (power), G21 VCCO_1 (power), H9 VCCAUX (power), H15 VCCAUX (power), J5 VCCO_3 (power), J8 VCCINT (power), J10 VCCINT (power), J12 VCCINT (power), J14 VCCINT (power), J18 VCCO_1 (power), K9 VCCINT (power), K11 VCCINT (power), K13 VCCINT (power), K15 VCCAUX (power), L2 VCCO_3 (power), L7 VCCO_3 (power), L8 VCCAUX (power), L10 VCCINT (power), L12 VCCINT (power), L14 VCCINT (power), L16 VCCO_1 (power), L21 VCCO_1 (power), M9 VCCINT (power), M11 VCCINT (power), M13 VCCINT (power), M15 VCCAUX (power), N5 VCCO_3 (power), N8 VCCAUX (power), N10 VCCINT (power), N12 VCCINT (power), N14 VCCINT (power), N18 VCCO_1 (power), P9 VCCINT (power), P11 VCCINT (power), P13 VCCINT (power), R2 VCCO_3 (power), R6 VCCAUX (power), R10 VCCAUX (power), R12 VCCAUX (power), R14 VCCINT (power), R17 VBATT (power), R21 VCCO_1 (power), T9 VCCO_2 (power), T13 VCCO_2 (power), U5 VCCO_3 (power), U11 VCCAUX (power), U18 VCCO_1 (power), V6 VCCAUX (power), V8 VCCO_2 (power), V12 VCCO_2 (power), V16 VCCO_2 (power), W2 VCCO_3 (power), W5 VCCO_2 (power), W21 VCCO_1 (power)
part G pins: A1 GND (power), A22 GND (power), AA5 GND (power), AA9 GND (power), AA13 GND (power), AA17 GND (power), AB1 GND (power), AB22 GND (power), B5 GND (power), B9 GND (power), B13 GND (power), B17 GND (power), D4 GND (power), D18 GND (power), E2 GND (power), E7 GND (power), E11 GND (power), E15 GND (power), E21 GND (power), G5 GND (power), G18 GND (power), H7 GND (power), J2 GND (power), J9 GND (power), J11 GND (power), J13 GND (power), J15 GND (power), J21 GND (power), K10 GND (power), K12 GND (power), K14 GND (power), L5 GND (power), L9 GND (power), L11 GND (power), L13 GND (power), L18 GND (power), M10 GND (power), M12 GND (power), M14 GND (power), N2 GND (power), N9 GND (power), N11 GND (power), N13 GND (power), N17 GND (power), N21 GND (power), P10 GND (power), P12 GND (power), P14 GND (power), R5 GND (power), R18 GND (power), U2 GND (power), U7 GND (power), U21 GND (power), V4 GND (power), V10 GND (power), V14 GND (power), W7 GND (power), W16 GND (power), W19 GND (power)
part A text: BANK 0
part B text: BANK 1
part C text: BANK 2
part D text: BANK 3

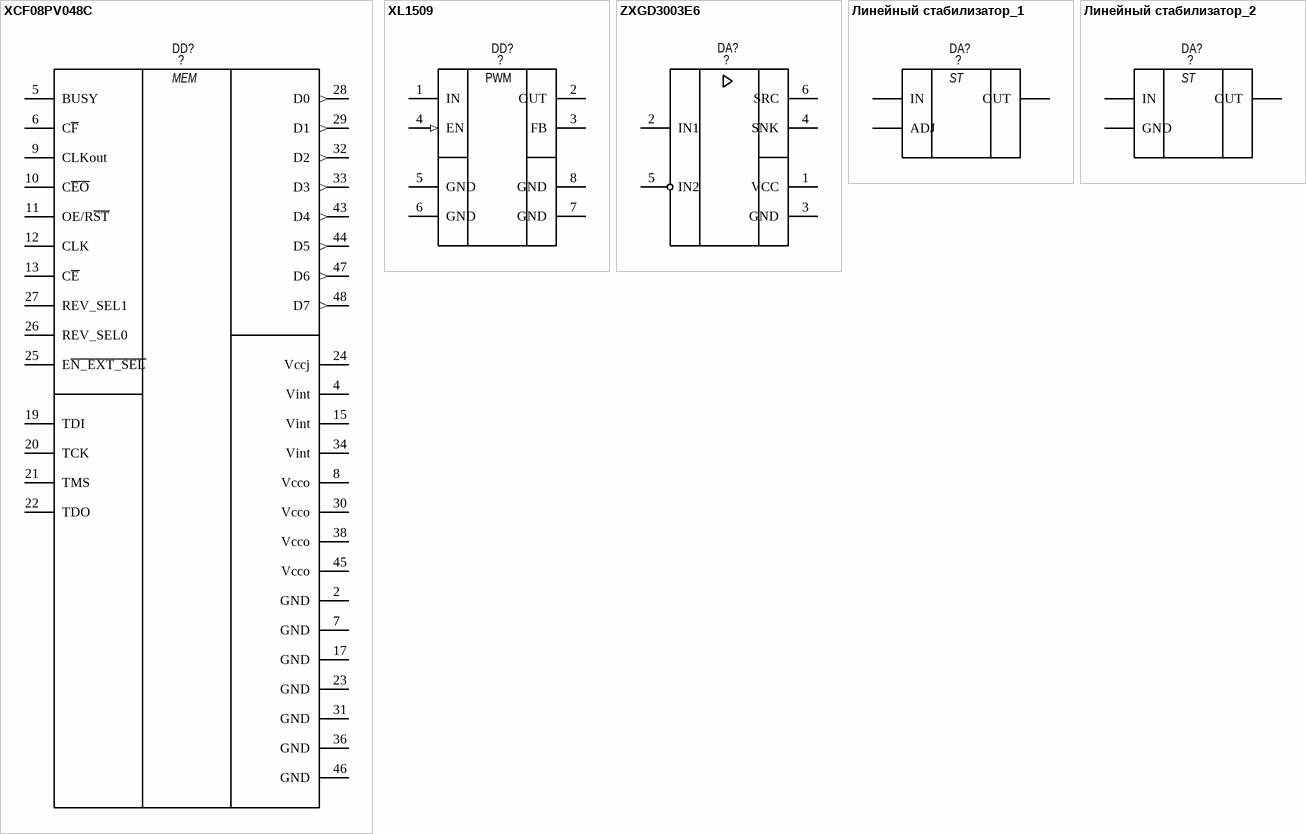
[diagram p19: symbols XCF08PV048C to Линейный стабилизатор_2]

## XCF08PV048C
designator DD?, comment ?
Flash In-System Programmable Configuration PROMs; type: ?; value: ?
pins: 1 DNC hidden "Do Not Connect.", 2 GND (power) "Ground", 3 DNC hidden "Do Not Connect.", 4 Vint (power) "+1.8V Supply. Positive 1.8V supply voltage for internal logic.", 5 BUSY, 6 C~{F}, 7 GND (power) "Ground", 8 Vcco (power) "+3.3V, 2.5V, or 1.8V I/O Supply. Positive 3.3V, 2.5V, or 1.8V  supply voltage connected to the output voltage drivers and  input buffers.", 9 CLKout, 10 C~{EO}, 11 OE/R~{ST}, 12 CLK, 13 C~{E}, 14 DNC hidden "Do Not Connect.", 15 Vint (power) "+1.8V Supply. Positive 1.8V supply voltage for internal logic.", 16 DNC hidden "Do Not Connect.", 17 GND (power) "Ground", 18 DNC hidden "Do Not Connect.", 19 TDI "JTAG", 20 TCK "JTAG", 21 TMS "JTAG", 22 TDO "JTAG", 23 GND (power) "Ground", 24 Vccj (power) "+3.3V or 2.5V JTAG I/O Supply. Positive 3.3V or 2.5V supply  voltage connected to the TDO output voltage driver and TCK,  TMS, and TDI input buffers.", 25 E~{N_EXT_SEL}, 26 REV_SEL0, 27 REV_SEL1, 28 D0 (out) "Data Out", 29 D1 (out) "Data Out", 30 Vcco (power) "+3.3V, 2.5V, or 1.8V I/O Supply. Positive 3.3V, 2.5V, or 1.8V  supply voltage connected to the output voltage drivers and  input buffers.", 31 GND (power) "Ground", 32 D2 (out) "Data Out", 33 D3 (out) "Data Out", 34 Vint (power) "+1.8V Supply. Positive 1.8V supply voltage for internal logic.", 35 DNC hidden "Do Not Connect.", 36 GND (power) "Ground", 37 DNC hidden "Do Not Connect.", 38 Vcco (power) "+3.3V, 2.5V, or 1.8V I/O Supply. Positive 3.3V, 2.5V, or 1.8V  supply voltage connected to the output voltage drivers and  input buffers.", 39 DNC hidden "Do Not Connect.", 40 DNC hidden "Do Not Connect.", 41 DNC hidden "Do Not Connect.", 42 DNC hidden "Do Not Connect.", 43 D4 (out) "Data Out", 44 D5 (out) "Data Out", 45 Vcco (power) "+3.3V, 2.5V, or 1.8V I/O Supply. Positive 3.3V, 2.5V, or 1.8V  supply voltage connected to the output voltage drivers and  input buffers.", 46 GND (power) "Ground", 47 D6 (out) "Data Out", 48 D7 (out) "Data Out"
text: MEM

## XL1509
designator DD?, comment ?
2A 150KHz 40V Buck DC to DC Converter; type: *; value: ?
pins: 1 IN, 2 OUT, 3 FB, 4 EN (in), 5 GND (power), 6 GND (power), 7 GND (power), 8 GND (power)
text: PWM

## ZXGD3003E6
designator DA?, comment ?
MOSFET gate driver; Type: ?; Value: ?
pins: 1 VCC, 2 IN1, 3 GND, 4 SNK, 5 IN2, 6 SRC "SOURCE"

## Линейный стабилизатор_1
designator DA?, comment ?
Type: ?; Value: ?
pins: ADJ, IN, OUT
text: ST

## Линейный стабилизатор_2
designator DA?, comment ?
Type: ?; Value: ?
pins: ADJ GND, IN, OUT
text: ST